# Altium footprint library PcbLib2.PcbLib: 17 footprints (part 1 of 2)
Each footprint in its own frame and in the unit in brackets; x right, y up, seen from the top. Pads: shape width x height; smd on the part's side, far side on the other; paste and mask are expansions set on the pad; w line width, h text height; cw(c..) or ccw(c..) is an arc to the next point about the centre after c.
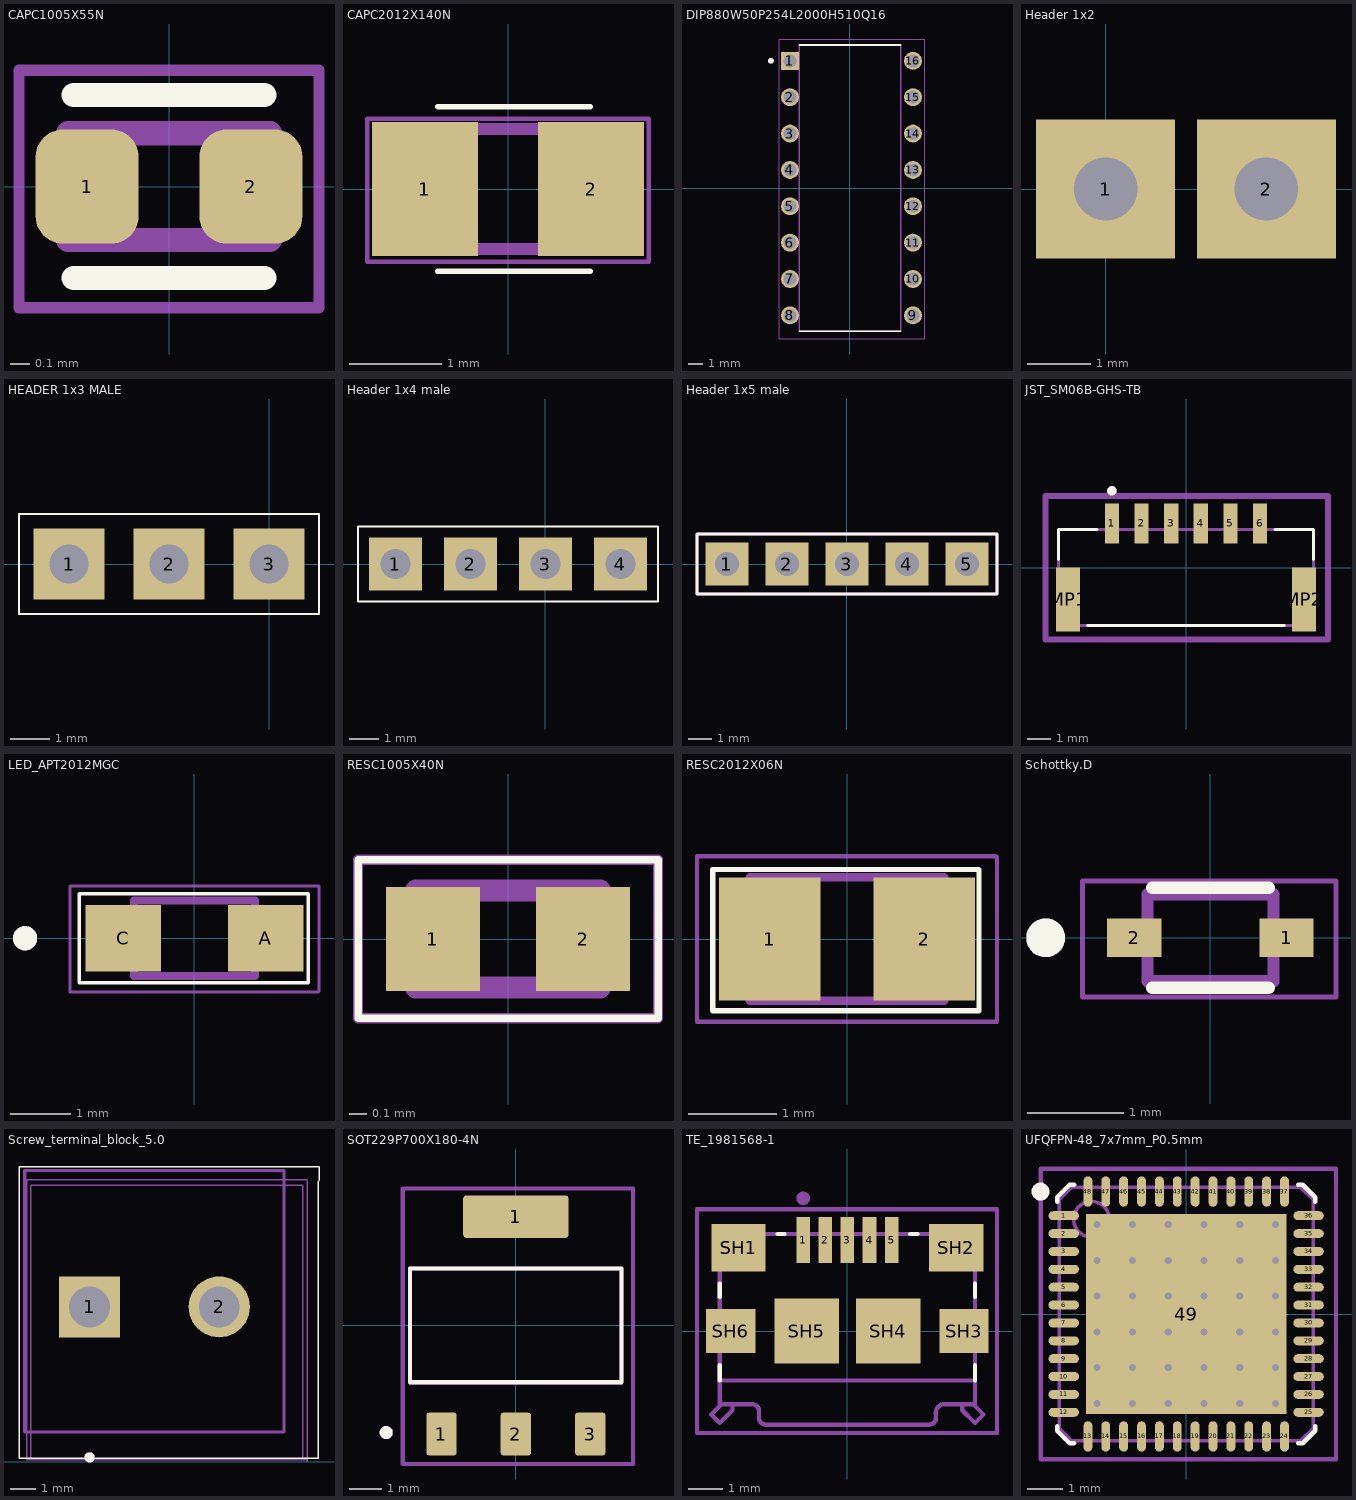
[diagram p0: the footprints below, top view; thin cyan lines are the x and y axes]

## CAPC1005X55N [mm]
pads (2):
  rrect53% 0.54x0.6 smd: 1(-0.43,0) 2(0.43,0)
Top Overlay:
  lines w0.127: -0.5,-0.48 0.5,-0.48 ; -0.5,0.48 0.5,0.48
Mechanical 13:
  lines w0.127: -0.53,-0.28 -0.53,0.28 0.53,0.28 0.53,-0.28 -0.53,-0.28
Assembly Notes:
  lines w0.06: -0.787,-0.635 -0.787,0.61 0.787,0.61 0.787,-0.635 -0.787,-0.635
3D body "step_temp.STEP": height 0.55, standoff 0, extent -0.5,-0.25 0.5,0.25

## CAPC2012X140N [mm]
pads (2):
  rect 1.15x1.45 smd: 1(-0.9,0) 2(0.9,0)
Top Overlay:
  lines w0.06: -0.762,-0.889 0.889,-0.889 ; -0.762,0.889 0.889,0.889
Mechanical 13:
  lines w0.127: -1,-0.65 -1,0.65 1,0.65 1,-0.65 -1,-0.65
Assembly Notes:
  lines w0.05: -1.524,-0.787 -1.524,0.762 1.524,0.762 1.524,-0.787 -1.524,-0.787
3D body "step_temp.STEP": height 0.94, standoff 0, extent -1.005,-0.625 1.005,0.625

## DIP880W50P254L2000H510Q16 [mm]
height 5.1
pads (16):
  rect 1.25x1.25 / inner round 1.25 / far side rect 1.25x1.25 hole 0.9: 1(-4.191,8.89)
  round 1.25 hole 0.9: 2(-4.191,6.35) 3(-4.191,3.81) 4(-4.191,1.27) 5(-4.191,-1.27) 6(-4.191,-3.81) 7(-4.191,-6.35) 8(-4.191,-8.89) 9(4.4,-8.89) 10(4.4,-6.35) 11(4.4,-3.81) 12(4.4,-1.27) 13(4.4,1.27) 14(4.4,3.81) 15(4.4,6.35) 16(4.4,8.89)
Top Overlay:
  circle w0.2: c-5.525,8.89 r0.1
  lines w0.127: -3.55,-10 3.55,-10 ; -3.55,10 3.55,10
Mechanical 13:
  circle w0.2: c-5.525,8.89 r0.1
  lines w0.127: -3.55,-10 -3.55,10 3.55,10 3.55,-10 -3.55,-10
Assembly Notes:
  lines w0.06: -4.953,-10.541 -4.953,10.414 5.207,10.414 5.207,-10.541 -4.953,-10.541
3D body "step_temp.STEP": height 5.1, standoff -3.3, extent -4.493,-10 4.747,10

## Header 1x2 [mm] "2.54mm"
pads (2):
  rect 2.2x2.2 hole 1: 1(0,0) 2(2.54,0)
3D body "DS1021-1_2SF1-1.STEP": height 8.6, standoff -3, extent -1.27,-1.27 3.81,1.27

## HEADER 1x3 MALE [mm] "2.54mm"
pads (3):
  rect 1.8x1.8 hole 1: 1(-5.08,0) 2(-2.54,0) 3(0,0)
Top Overlay:
  lines w0.06: -6.35,-1.27 1.27,-1.27 1.27,1.27 -6.35,1.27 -6.35,-1.27
3D body "DS1021-1x3S61.stp": height 8.6, standoff -3, extent -6.35,-1.27 1.27,1.27

## Header 1x4 male [mm] "2.54mm"
pads (4):
  rect 1.8x1.8 hole 1: 1(-5.08,0) 2(-2.54,0) 3(0,0) 4(2.54,0)
Top Overlay:
  lines w0.06: -6.35,-1.27 3.81,-1.27 3.81,1.27 -6.35,1.27 -6.35,-1.27
3D body "DS1021-1x4S61.stp": height 8.6, standoff -3, extent -6.35,-1.27 3.81,1.27

## Header 1x5 male [mm] "2.54mm"
pads (5):
  rect 1.8x1.8 hole 1: 1(-5.08,0) 2(-2.54,0) 3(0,0) 4(2.54,0) 5(5.08,0)
Top Overlay:
  lines w0.125: -6.35,-1.27 -6.35,1.27 6.35,1.27 6.35,-1.27 -6.35,-1.27
Assembly Notes:
  lines w0.125: -6.35,-1.27 -6.35,1.27 6.35,1.27 6.35,-1.27 -6.35,-1.27
3D body "DS1021-1x5S61.stp": height 8.6, standoff -3, extent -6.35,-1.27 6.35,1.27

## JST_SM06B-GHS-TB [mm]
pads (8):
  rect 0.6x1.7 smd paste+0 mask+0.102: 1(-3.125,1.875) 2(-1.875,1.875) 3(-0.625,1.875) 4(0.625,1.875) 5(1.875,1.875) 6(3.125,1.875)
  rect 1x2.7 smd paste+0 mask+0.102: MP1(-4.975,-1.325) MP2(4.975,-1.325)
Top Overlay:
  circle w0.2: c-3.125,3.25 r0.1
  lines w0.127: -5.375,0.345 -5.375,1.625 -3.745,1.625 ; -4.155,-2.425 4.155,-2.425 ; 3.745,1.625 5.375,1.625 5.375,0.345
Mechanical 13:
  circle w0.2: c-3.125,3.25 r0.1
  lines w0.127: -5.375,-2.425 -5.375,1.625 5.375,1.625 5.375,-2.425 -5.375,-2.425
Assembly Notes:
  lines w0.254: -5.918,-3.023 -5.918,3.023 5.994,3.023 5.994,-3.023 -5.918,-3.023
3D body "step_temp.STEP": height 4.25, standoff 0, extent -5.375,-2.048 5.375,2.802

## LED_APT2012MGC [mm]
height 0.75
pads (2):
  rect 1.25x1.1 smd: A(1.175,0) C(-1.175,0)
Top Overlay:
  circle w0.2: c-2.8,0 r0.1
  lines w0.06: -1.905,-0.737 1.88,-0.737 1.88,0.737 -1.905,0.737 -1.905,0.368 -1.905,-0.368 -1.905,-0.737
Mechanical 13:
  circle w0.2: c-2.8,0 r0.1
  lines w0.127: -1,-0.625 -1,0.625 1,0.625 1,-0.625 -1,-0.625
Assembly Notes:
  lines w0.051: -2.057,-0.889 -2.057,0.864 2.057,0.864 2.057,-0.864 cw(c2.032,-0.864) 2.032,-0.889 -2.057,-0.889
3D body "step_temp.STEP": height 0.75, standoff 0, extent -1,-0.625 1,0.625

## RESC1005X40N [mm]
pads (2):
  rect 0.54x0.6 smd paste+0 mask+0.102: 1(-0.432,0) 2(0.432,0)
Top Overlay:
  lines w0.043: -0.864,-0.457 -0.864,0.457 0.864,0.457 0.864,-0.457 -0.864,-0.457
Mechanical 13:
  lines w0.127: -0.53,-0.28 -0.53,0.28 0.53,0.28 0.53,-0.28 -0.53,-0.28
Assembly Notes:
  lines w0.06: -0.864,-0.457 -0.864,0.457 0.864,0.457 0.864,-0.457 -0.864,-0.457
3D body "step_temp.STEP": height 0.4, standoff 0, extent -0.5,-0.25 0.5,0.25

## RESC2012X06N [mm] "Chip Resistor, 2-Leads, Body 2.00x1.25mm, IPC Medium Density"
height 0.6
pads (2):
  rect 1.15x1.4 smd: 1(-0.875,0) 2(0.875,0)
Top Overlay:
  lines w0.06: -1.524,-0.813 1.499,-0.813 1.499,0.787 -1.524,0.787 -1.524,-0.813
Mechanical 13:
  lines w0.1: -1.1,-0.7 1.1,-0.7 1.1,0.7 -1.1,0.7 -1.1,-0.7
Assembly Notes:
  lines w0.051: -1.702,-0.94 -1.702,0.94 1.676,0.94 cw(c1.676,0.914) 1.702,0.914 1.702,-0.94 -1.702,-0.94
3D body "RESC2012X06N.step": height 0.6, standoff 0, extent -1.1,-0.7 1.1,0.7

## Schottky.D [mm]
height 0.65
pads (2):
  rect 0.56x0.4 smd: 1(0.785,0) 2(-0.785,0)
Top Overlay:
  circle w0.2: c-1.7,0 r0.1
  lines w0.127: -0.6,-0.515 0.6,-0.515 ; -0.6,0.515 0.6,0.515
Mechanical 13:
  circle w0.2: c-1.7,0 r0.1
  lines w0.127: -0.65,-0.45 0.65,-0.45 0.65,0.45 -0.65,0.45 -0.65,-0.45
Assembly Notes:
  lines w0.05: -1.321,-0.61 1.295,-0.61 1.295,0.584 -1.321,0.584 -1.321,-0.61
3D body "step_temp.STEP": height 0.65, standoff 0, extent -0.8,-0.4 0.8,0.4

## Screw_terminal_block_5.0 [mm]
pads (2):
  rect 2.4x2.4 / inner round 2.4 / far side rect 2.4x2.4 hole 1.6: 1(4.267,6.071)
  round 2.4 hole 1.6: 2(9.347,6.071)
Top Overlay:
  circle w0.2: c4.267,0.171 r0.1
  lines w0.05: 13.233,10.998 13.233,0.127 1.499,0.127 1.499,11.557 13.259,11.557 13.259,11.024
Mechanical 13:
  circle w0.2: c4.267,0.171 r0.1
  lines w0.127: 1.727,1.171 11.887,1.171 11.887,11.421 1.727,11.421 1.727,1.171
Mechanical 15:
  lines w0.05: 1.96,0.082 12.62,0.082 12.62,10.832 1.96,10.832 1.96,0.082
Assembly Notes:
  lines w0.05: 1.778,11.049 12.776,11.049 12.802,11.024 12.802,0.025 12.751,0.076 1.803,0.076 1.803,11.024 1.778,11.049
3D body "step_temp.STEP": height 14, standoff -3.7, extent 1.884,0.559 12.644,10.809

## SOT229P700X180-4N [mm]
height 1.8
pads (4):
  rrect15% 0.93x1.31 smd: 1(-2.29,-3.345) 2(0,-3.345) 3(2.29,-3.345)
  rrect15% 3.24x1.31 smd: 1(0,3.345)
Top Overlay:
  circle w0.2: c-3.99,-3.3 r0.1
  lines w0.127: -3.253,-1.753 3.253,-1.753 3.253,1.753 -3.253,1.753 -3.253,-1.753
Mechanical 13:
  circle w0.2: c-3.99,-3.3 r0.1
  lines w0.127: -3.253,-1.753 3.253,-1.753 3.253,1.753 -3.253,1.753 -3.253,-1.753
Assembly Notes:
  lines w0.127: -3.48,-4.267 3.607,-4.267 3.607,4.216 -3.48,4.216 -3.48,-4.267
3D body "step_temp.STEP": height 1.8, standoff 0, extent -3.251,-3.499 3.251,3.499

## TE_1981568-1 [mm]
height 3
pads (11):
  rect 0.4x1.35 smd: 1(-1.3,2.675) 2(-0.65,2.675) 3(0,2.675) 4(0.65,2.675) 5(1.3,2.675)
  rect 1.6x1.4 smd: SH1(-3.2,2.45) SH2(3.2,2.45)
  rect 1.45x1.3 smd: SH3(3.425,0) SH6(-3.425,0)
  rect 1.9x1.9 smd: SH4(1.2,0) SH5(-1.2,0)
Top Overlay:
  lines w0.127: -3.75,-1.45 -3.75,-1 ; -3.75,1 -3.75,1.4 ; -2.05,2.85 -1.85,2.85 ; 1.85,2.85 2.05,2.85 ; 3.75,-1.45 3.75,-1 ; 3.75,1 3.75,1.4
Mechanical 13:
  circle w0.2: c-1.3,3.9 r0.1
  lines w0.127: -3.78,-0.45 -4,-0.45 -4,0.45 -3.76,0.45 ; -3.75,-2.2 -4,-2.45 -3.75,-2.7 -3.375,-2.325 -3.375,-2.2 ; 2.6,-2.465 2.6,-2.55 cw(c2.4,-2.55) 2.4,-2.75 -2.4,-2.75 cw(c-2.4,-2.55) -2.6,-2.55 -2.6,-2.35 ccw(c-2.8,-2.35) -2.8,-2.15 -3.75,-2.15 -3.75,-1.45 ; 2.6,-2.467 cw(c2.857,-2.408) 2.798,-2.15 ; 2.8,-2.15 3.75,-2.15 3.75,-1.45 ; 3.375,-2.2 3.375,-2.325 3.75,-2.7 4,-2.45 3.75,-2.2 ; 3.76,0.45 4,0.45 4,-0.45 3.77,-0.45 ; -3.75,-1.45 -3.75,2.85 3.75,2.85 3.75,-1.45 ; -3.75,-1.45 3.75,-1.45
Assembly Notes:
  lines w0.127: -4.42,3.581 -4.42,-2.997 4.394,-2.997 4.394,3.581 -4.394,3.581
3D body "step_temp.STEP": height 2.81, standoff -0.27, extent -4,-2.75 4,2.85

## UFQFPN-48_7x7mm_P0.5mm [mm] "QFN, 48-Leads, Body 7.00x7.00mm, Pitch 0.50mm, Thermal Pad 5.60x5.60mm, IPC Medium Density"
height 0.55
pads (49):
  oval 0.85x0.25 smd: 1(-3.425,2.75) 2(-3.425,2.25) 3(-3.425,1.75) 4(-3.425,1.25) 5(-3.425,0.75) 6(-3.425,0.25) 7(-3.425,-0.25) 8(-3.425,-0.75) 9(-3.425,-1.25) 10(-3.425,-1.75) 11(-3.425,-2.25) 12(-3.425,-2.75) 25(3.425,-2.75) 26(3.425,-2.25) 27(3.425,-1.75) 28(3.425,-1.25) 29(3.425,-0.75) 30(3.425,-0.25) 31(3.425,0.25) 32(3.425,0.75) 33(3.425,1.25) 34(3.425,1.75) 35(3.425,2.25) 36(3.425,2.75)
  oval 0.25x0.85 smd: 13(-2.75,-3.425) 14(-2.25,-3.425) 15(-1.75,-3.425) 16(-1.25,-3.425) 17(-0.75,-3.425) 18(-0.25,-3.425) 19(0.25,-3.425) 20(0.75,-3.425) 21(1.25,-3.425) 22(1.75,-3.425) 23(2.25,-3.425) 24(2.75,-3.425) 37(2.75,3.425) 38(2.25,3.425) 39(1.75,3.425) 40(1.25,3.425) 41(0.75,3.425) 42(0.25,3.425) 43(-0.25,3.425) 44(-0.75,3.425) 45(-1.25,3.425) 46(-1.75,3.425) 47(-2.25,3.425) 48(-2.75,3.425)
  rect 5.6x5.6 smd paste-2.8: 49(0,0)
via -2.5,2.5 diameter 0.5 hole 0.2
via -1.5,2.5 diameter 0.5 hole 0.2
via -0.5,2.5 diameter 0.5 hole 0.2
via 0.5,2.5 diameter 0.5 hole 0.2
via 1.5,2.5 diameter 0.5 hole 0.2
via 2.5,2.5 diameter 0.5 hole 0.2
via -2.5,1.5 diameter 0.5 hole 0.2
via -1.5,1.5 diameter 0.5 hole 0.2
via -0.5,1.5 diameter 0.5 hole 0.2
via 0.5,1.5 diameter 0.5 hole 0.2
via 1.5,1.5 diameter 0.5 hole 0.2
via 2.5,1.5 diameter 0.5 hole 0.2
via -2.5,0.5 diameter 0.5 hole 0.2
via -1.5,0.5 diameter 0.5 hole 0.2
via -0.5,0.5 diameter 0.5 hole 0.2
via 0.5,0.5 diameter 0.5 hole 0.2
via 1.5,0.5 diameter 0.5 hole 0.2
via 2.5,0.5 diameter 0.5 hole 0.2
via -2.5,-0.5 diameter 0.5 hole 0.2
via -1.5,-0.5 diameter 0.5 hole 0.2
via -0.5,-0.5 diameter 0.5 hole 0.2
via 0.5,-0.5 diameter 0.5 hole 0.2
via 1.5,-0.5 diameter 0.5 hole 0.2
via 2.5,-0.5 diameter 0.5 hole 0.2
via -2.5,-1.5 diameter 0.5 hole 0.2
via -1.5,-1.5 diameter 0.5 hole 0.2
via -0.5,-1.5 diameter 0.5 hole 0.2
via 0.5,-1.5 diameter 0.5 hole 0.2
via 1.5,-1.5 diameter 0.5 hole 0.2
via 2.5,-1.5 diameter 0.5 hole 0.2
via -2.5,-2.5 diameter 0.5 hole 0.2
via -1.5,-2.5 diameter 0.5 hole 0.2
via -0.5,-2.5 diameter 0.5 hole 0.2
via 0.5,-2.5 diameter 0.5 hole 0.2
via 1.5,-2.5 diameter 0.5 hole 0.2
via 2.5,-2.5 diameter 0.5 hole 0.2
Top Overlay:
  circle w0.25: c-4.077,3.425 r0.125
  lines w0.127: -3.614,-3.139 -3.614,-3.264 -3.263,-3.614 -3.139,-3.614 ; -3.614,3.139 -3.614,3.263 -3.263,3.614 -3.139,3.614 ; 3.139,-3.614 3.264,-3.614 3.614,-3.264 3.614,-3.139 ; 3.139,3.614 3.264,3.614 3.614,3.263 3.614,3.139
Top Paste:
  rectangle: -2.253,0.273 -0.273,2.253
  rectangle: -2.253,-2.253 -0.273,-0.273
  rectangle: 0.273,0.273 2.253,2.253
  rectangle: 0.273,-2.253 2.253,-0.273
Top Assembly:
  circle w0.1: c-2.65,2.65 r0.5
  lines w0.1: -3.55,-3.2 -3.2,-3.55 3.2,-3.55 3.55,-3.2 3.55,3.2 3.2,3.55 -3.2,3.55 -3.55,3.2 -3.55,-3.2
Top Component Center:
  lines w0.1: -0.5,0 0.5,0 ; 0,-0.5 0,0.5
Assembly Notes:
  lines w0.125: -4.064,-4.064 4.191,-4.064 4.191,4.064 -4.064,4.064 -4.064,-4.064
3D body "UFQFPN-48_7x7mm_P0.5mm.step": height 0.55, standoff 0, extent -3.501,-3.501 3.501,3.501